# EAGLE library part USB (library flashlight)
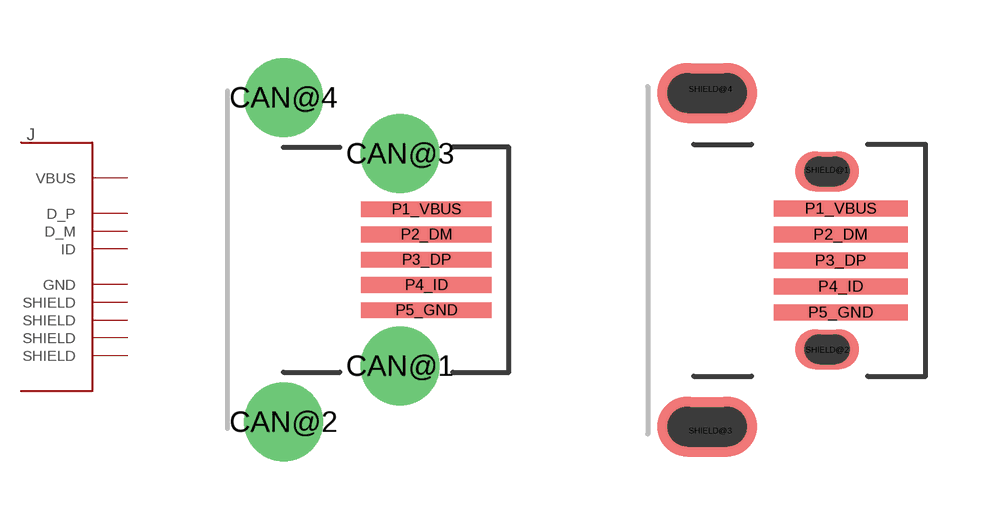
[diagram p3: symbol with the pads of MOLEX_MICRO_USB; footprints MOLEX_MICRO_USB, MOLEX_MICRO_USB_SLOTS]

Designator prefix J

## USB  [MOLEX_MICRO_USB]
CAN@1  SHIELD  nc
CAN@2  SHIELD  nc
CAN@3  SHIELD  nc
CAN@4  SHIELD  nc
P1_VBUS  VBUS
P2_DM  D_M
P3_DP  D_P
P4_ID  ID
P5_GND  GND

## USBSLOTS  [MOLEX_MICRO_USB_SLOTS]
P1_VBUS  VBUS
P2_DM  D_M
P3_DP  D_P
P4_ID  ID
P5_GND  GND
SHIELD@1  SHIELD  nc
SHIELD@2  SHIELD  nc
SHIELD@3  SHIELD  nc
SHIELD@4  SHIELD  nc

## USBSMT  [USB_SMT]
1VBUS  VBUS
2D-  D_M
3D+  D_P
4ID  ID
5GND  GND
SHIELD@1  SHIELD  nc
SHIELD@2  SHIELD  nc
SHIELD@3  SHIELD  nc
SHIELD@4  SHIELD  nc

## Footprint MOLEX_MICRO_USB (pad centres in mm)
drill 1.35: CAN@1 3,-2.733; CAN@2 0,-4.175; CAN@3 3,2.733; CAN@4 0,4.175
smd 3.35 x 0.4: P1_VBUS 3.675,1.3; P2_DM 3.675,0.65; P3_DP 3.675,0; P4_ID 3.675,-0.65; P5_GND 3.675,-1.3

## Footprint MOLEX_MICRO_USB_SLOTS (pad centres in mm)
smd 3.35 x 0.4: P1_VBUS 0.335,1.288; P2_DM 0.335,0.637; P3_DP 0.335,-0.013; P4_ID 0.335,-0.662; P5_GND 0.335,-1.312
smd 0.2 x 0.2: SHIELD@1 0,2.25; SHIELD@2 0,-2.25; SHIELD@3 -2.925,-4.275; SHIELD@4 -2.925,4.275

## Footprint USB_SMT (pad centres in mm)
smd 0.4 x 1.35: 1VBUS -1.3,2.675; 2D- -0.65,2.675; 3D+ 0,2.675; 4ID 0.65,2.675; 5GND 1.3,2.675
smd 2.1 x 1.6: SHIELD@1 -3.1,2.55; SHIELD@6 3.1,2.55
smd 1.8 x 1.9: SHIELD@2 -3.8,0; SHIELD@5 3.8,0
smd 1.9 x 1.9: SHIELD@3 -1.2,0; SHIELD@4 1.2,0